# EAGLE library part 61301011821 (library Wuerth_Elektronik_eiCan_Pin_&_Socked_Headers_v1.3)
WR-PHD 2.54mm Socket Header, 9 Pins
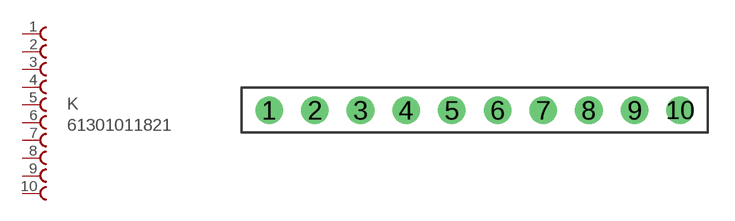
[diagram p112: symbol with the pads of 61301011821; footprint 61301011821]

Designator prefix K

## 61301011821  [61301011821]
1  1  pas
2  2  pas
3  3  pas
4  4  pas
5  5  pas
6  6  pas
7  7  pas
8  8  pas
9  9  pas
10  10  pas

## Footprint 61301011821 (pad centres in mm)
WR-PHD 2.54mm Socket Header, 10 Pins
drill 1.02 round: 1 -11.43,0; 2 -8.89,0; 3 -6.35,0; 4 -3.81,0; 5 -1.27,0; 6 1.27,0; 7 3.81,0; 8 6.35,0; 9 8.89,0; 10 11.43,0